# Altium schematic symbol library 534998-8.SchLib: 1 symbol
Pins are listed as number, name and electrical type; pins without a type are passive.

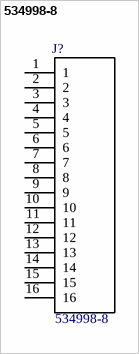
[diagram p0: symbol 534998-8]

## 534998-8
designator J?
Value: *
footprint *TE_534998-8
pins: 1, 2, 3, 4, 5, 6, 7, 8, 9, 10, 11, 12, 13, 14, 15, 16